# EAGLE library part LCD240320 (library lcd)
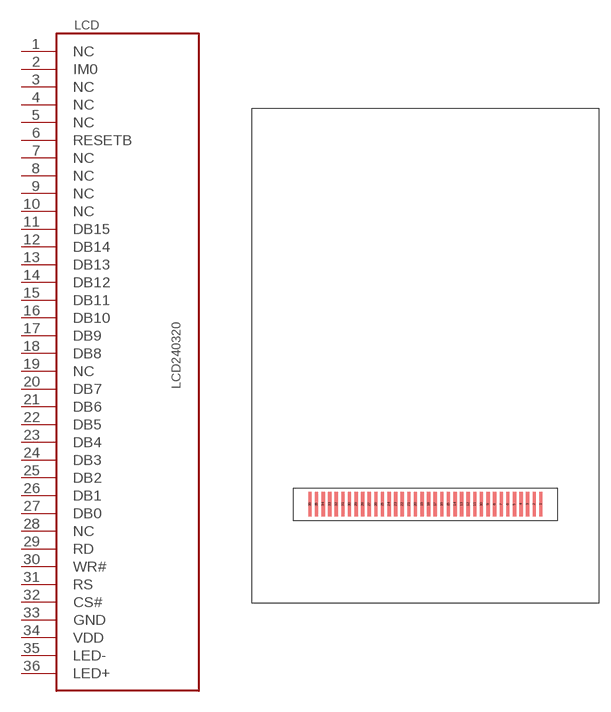
[diagram p0: symbol with the pads of TM240320; footprint TM240320]

Designator prefix LCD

## LCD240320  [TM240320]
1  NC  nc
2  IM0  in
3  NC  nc
4  NC  nc
5  NC  nc
6  RESETB  in
7  NC  nc
8  NC  nc
9  NC  nc
10  NC  nc
11  DB15
12  DB14
13  DB13
14  DB12
15  DB11
16  DB10
17  DB9
18  DB8
19  NC  nc
20  DB7
21  DB6
22  DB5
23  DB4
24  DB3
25  DB2
26  DB1
27  DB0
28  NC  nc
29  RD  in
30  WR#  in
31  RS  in
32  CS#  in
33  GND  pwr
34  VDD  pwr
35  LED-  pwr
36  LED+  pwr

## Footprint TM240320 (pad centres in mm)
smd 0.4 x 3: 1 14,0; 2 13.2,0; 3 12.4,0; 4 11.6,0; 5 10.8,0; 6 10,0; 7 9.2,0; 8 8.4,0; 9 7.6,0; 10 6.8,0; 11 6,0; 12 5.2,0; 13 4.4,0; 14 3.6,0; 15 2.8,0; 16 2,0; 17 1.2,0; 18 0.4,0; 19 -0.4,0; 20 -1.2,0; 21 -2,0; 22 -2.8,0; 23 -3.6,0; 24 -4.4,0; 25 -5.2,0; 26 -6,0; 27 -6.8,0; 28 -7.6,0; 29 -8.4,0; 30 -9.2,0; 31 -10,0; 32 -10.8,0; 33 -11.6,0; 34 -12.4,0; 35 -13.2,0; 36 -14,0